# EAGLE library part MBI5026 (library IC)
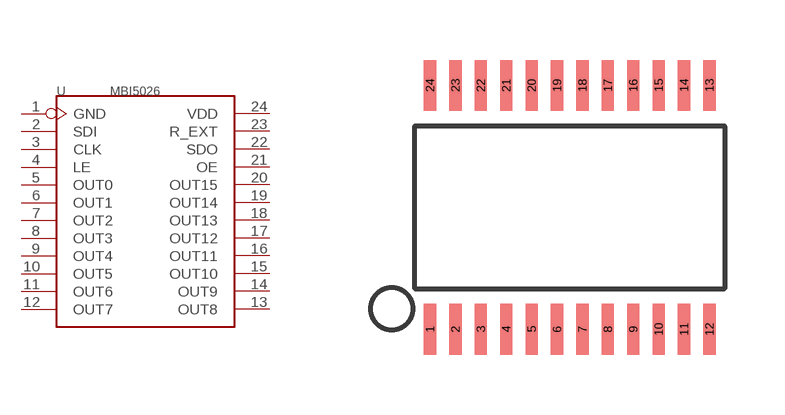
[diagram p74: symbol with the pads of SSOP24; footprint SSOP24]

Designator prefix U

## MBI5026-SSOP24  [SSOP24]
1  GND
2  SDI
3  CLK
4  LE
5  OUT0
6  OUT1
7  OUT2
8  OUT3
9  OUT4
10  OUT5
11  OUT6
12  OUT7
13  OUT8
14  OUT9
15  OUT10
16  OUT11
17  OUT12
18  OUT13
19  OUT14
20  OUT15
21  OE
22  SDO
23  R_EXT
24  VDD

## Footprint SSOP24 (pad centres in mm)
Small Shrink Outline Package SOT340-1 / JEDEC MO-150AG
smd 0.305 x 1.27: 1 -3.493,-3.048; 2 -2.857,-3.048; 3 -2.223,-3.048; 4 -1.587,-3.048; 5 -0.953,-3.048; 6 -0.318,-3.048; 7 0.318,-3.048; 8 0.953,-3.048; 9 1.587,-3.048; 10 2.223,-3.048; 11 2.857,-3.048; 12 3.493,-3.048; 13 3.493,3.048; 14 2.857,3.048; 15 2.223,3.048; 16 1.587,3.048; 17 0.953,3.048; 18 0.318,3.048; 19 -0.318,3.048; 20 -0.953,3.048; 21 -1.587,3.048; 22 -2.223,3.048; 23 -2.857,3.048; 24 -3.493,3.048